# Altium footprint library 3R.PcbLib: 2 footprints
Each footprint in its own frame and in the unit in brackets; x right, y up, seen from the top. Pads: shape width x height; smd on the part's side, far side on the other; paste and mask are expansions set on the pad; w line width, h text height; cw(c..) or ccw(c..) is an arc to the next point about the centre after c.
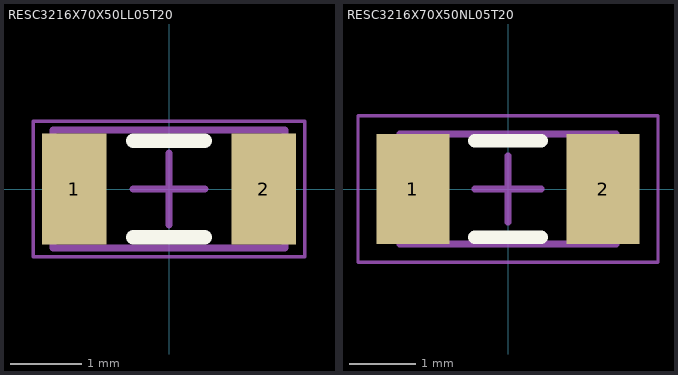
[diagram p0: the footprints below, top view; thin cyan lines are the x and y axes]

## RESC3216X70X50LL05T20 [mm] "Chip Resistor, 2-Leads, Body 3.20x1.60mm, IPC High Density"
height 0.7
pads (2):
  rect 0.9x1.55 smd: 1(-1.325,0) 2(1.325,0)
Top Overlay:
  lines w0.2: -0.5,-0.675 0.5,-0.675 ; -0.5,0.675 0.5,0.675
Mechanical 13:
  lines w0.1: -1.625,-0.825 1.625,-0.825 1.625,0.825 -1.625,0.825 -1.625,-0.825
Mechanical 15:
  lines w0.05: -1.9,-0.95 1.9,-0.95 1.9,0.95 -1.9,0.95 -1.9,-0.95
  lines w0.1: -0.5,0 0.5,0 ; 0,-0.5 0,0.5
3D body: height 0.7, standoff 0, extent 1.125,-0.825 1.625,0.825
3D body: height 0.7, standoff 0, extent -1.625,-0.825 -1.125,0.825
3D body: height 0.7, standoff 0, extent -1.125,-0.825 1.125,0.825

## RESC3216X70X50NL05T20 [mm] "Chip Resistor, 2-Leads, Body 3.20x1.60mm, IPC Medium Density"
height 0.7
pads (2):
  rect 1.1x1.65 smd: 1(-1.425,0) 2(1.425,0)
Top Overlay:
  lines w0.2: -0.5,-0.725 0.5,-0.725 ; -0.5,0.725 0.5,0.725
Mechanical 13:
  lines w0.1: -1.625,-0.825 1.625,-0.825 1.625,0.825 -1.625,0.825 -1.625,-0.825
Mechanical 15:
  lines w0.05: -2.25,-1.1 2.25,-1.1 2.25,1.1 -2.25,1.1 -2.25,-1.1
  lines w0.1: -0.5,0 0.5,0 ; 0,-0.5 0,0.5
3D body: height 0.7, standoff 0, extent 1.125,-0.825 1.625,0.825
3D body: height 0.7, standoff 0, extent -1.625,-0.825 -1.125,0.825
3D body: height 0.7, standoff 0, extent -1.125,-0.825 1.125,0.825